# Altium footprint library Texas Instruments.PcbLib: 78 footprints (part 1 of 5)
Each footprint in its own frame and in the unit in brackets; x right, y up, seen from the top. Pads: shape width x height; smd on the part's side, far side on the other; paste and mask are expansions set on the pad; w line width, h text height; cw(c..) or ccw(c..) is an arc to the next point about the centre after c.
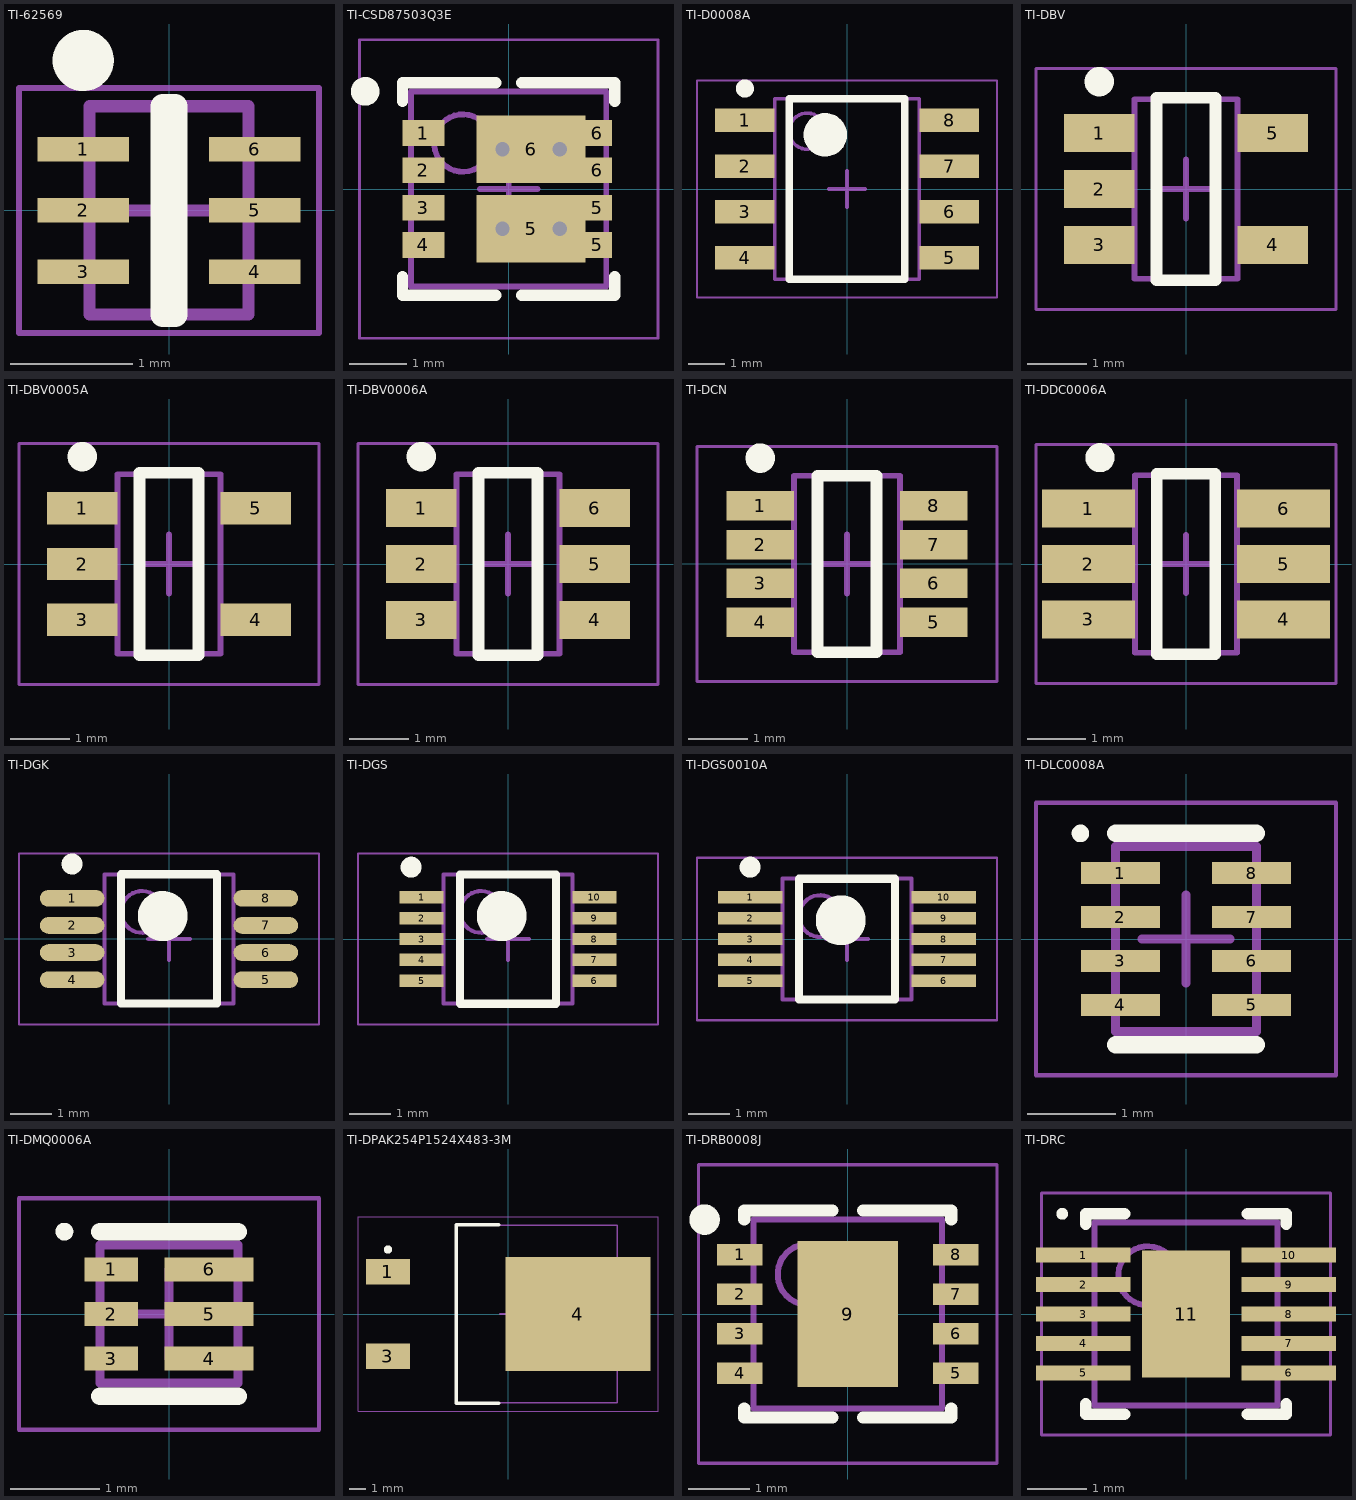
[diagram p0: the footprints below, top view; thin cyan lines are the x and y axes]

## TI-62569 [mm] "SOTFL, 6-Leads, Body 1.60x1.60mm, Pitch 0.50mm, IPC Medium Density"
height 0.6
pads (6):
  rect 0.75x0.2 smd: 1(-0.7,0.5) 2(-0.7,0) 3(-0.7,-0.5) 4(0.7,-0.5) 5(0.7,0) 6(0.7,0.5)
Top Overlay:
  circle w0.25: c-0.7,1.225 r0.125
  lines w0.2: -0.05,-0.85 -0.05,0.85 0.05,0.85 0.05,-0.85 -0.05,-0.85
Top Assembly:
  lines w0.1: -0.65,-0.85 0.65,-0.85 0.65,0.85 -0.65,0.85 -0.65,-0.85
Top Courtyard:
  lines w0.05: -1.225,-1 1.225,-1 1.225,1 -1.225,1 -1.225,-1
  lines w0.1: -0.5,0 0.5,0 ; 0,-0.5 0,0.5
3D body "TLV62569ADRLR.step": height 0.6, standoff 0, extent -0.8,-0.848 0.8,0.848

## TI-CSD87503Q3E [mm] "QFN, 8-Leads, Body 3.30x3.30mm, Pitch 0.65mm, Thermal Pad 1.00x1.60mm, IPC Low Density"
height 1
pads (10):
  rect 0.73x0.447 smd paste-0.05 mask-0.05: 1(-1.485,0.975) 2(-1.485,0.325) 3(-1.485,-0.325) 4(-1.485,-0.975)
  rect 1.9x1.18 smd paste-0.05 mask-0.05: 5(0.39,-0.691) 6(0.39,0.691)
  rect 0.51x0.447 smd paste-0.05 mask-0.05: 5(1.545,-0.975) 5(1.545,-0.325) 6(1.545,0.325) 6(1.545,0.975)
via 0.891,0.691 diameter 0.656 hole 0.25
via -0.109,0.691 diameter 0.656 hole 0.25
via 0.891,-0.691 diameter 0.656 hole 0.25
via -0.109,-0.691 diameter 0.656 hole 0.25
Top Overlay:
  circle w0.25: c-2.5,1.7 r0.125
  lines w0.2: -1.85,-1.525 -1.85,-1.85 -0.225,-1.85 ; -1.85,1.525 -1.85,1.85 -0.225,1.85 ; 0.225,-1.85 1.85,-1.85 1.85,-1.525 ; 0.225,1.85 1.85,1.85 1.85,1.525
Assembly Top:
  circle w0.1: c-0.8,0.8 r0.5
  lines w0.1: -1.7,-1.7 1.7,-1.7 1.7,1.7 -1.7,1.7 -1.7,-1.7
Courtyard Top:
  lines w0.05: -2.6,-2.6 2.6,-2.6 2.6,2.6 -2.6,2.6 -2.6,-2.6
  lines w0.1: -0.5,0 0.5,0 ; 0,-0.5 0,0.5
3D body "TI-Q3.step": height 1, standoff 0, extent -1.701,-1.7 1.701,1.7

## TI-D0008A [mm] "SOIC, 8-Leads, Body 4.91x3.90mm, Pitch 1.27mm, IPC Low Density"
height 1.75
pads (8):
  rect 1.65x0.65 smd: 1(-2.825,1.905) 2(-2.825,0.635) 3(-2.825,-0.635) 4(-2.825,-1.905) 5(2.825,-1.905) 6(2.825,-0.635) 7(2.825,0.635) 8(2.825,1.905)
Top Overlay:
  circle w0.25: c-2.825,2.78 r0.125
  circle w0.6: c-0.6,1.5 r0.3
  lines w0.2: -1.6,-2.5 -1.6,2.5 1.6,2.5 1.6,-2.5 -1.6,-2.5
Assembly Top:
  circle w0.1: c-1.1,1.6 r0.5
  lines w0.1: -2,-2.5 -2,2.5 2,2.5 2,-2.5 -2,-2.5
Courtyard Top:
  lines w0.05: -4.15,-3 -4.15,3 4.15,3 4.15,-3 -4.15,-3
  lines w0.1: -0.5,0 0.5,0 ; 0,-0.5 0,0.5
3D body "TI-D0008A.step": height 1.75, standoff 0, extent -2.997,-2.5 2.998,2.5

## TI-DBV [mm] "SOT23, 5-Leads, Body 2.90x2.80mm, Pitch 0.95mm, IPC Low Density"
height 1.45
pads (5):
  rect 1.2x0.65 smd: 1(-1.475,0.95) 2(-1.475,0) 3(-1.475,-0.95) 4(1.475,-0.95) 5(1.475,0.95)
Top Overlay:
  circle w0.25: c-1.475,1.825 r0.125
  lines w0.2: -0.5,-1.55 0.5,-1.55 0.5,1.55 -0.5,1.55 -0.5,-1.55
Assembly Top:
  lines w0.1: -0.875,-1.525 0.875,-1.525 0.875,1.525 -0.875,1.525 -0.875,-1.525
Courtyard Top:
  lines w0.05: -2.55,-2.05 2.55,-2.05 2.55,2.05 -2.55,2.05 -2.55,-2.05
  lines w0.1: -0.5,0 0.5,0 ; 0,-0.5 0,0.5
3D body "TI-DBV.step": height 1.45, standoff 0, extent -1.5,-1.525 1.5,1.525

## TI-DBV0005A [mm] "SOT23, 5-Leads, Body 2.90x2.80mm, Pitch 0.95mm, IPC Low Density"
height 1.45
pads (5):
  rect 1.2x0.55 smd mask+0.09: 1(-1.475,0.95) 2(-1.475,0) 3(-1.475,-0.95) 4(1.475,-0.95) 5(1.475,0.95)
Top Overlay:
  circle w0.25: c-1.475,1.825 r0.125
  lines w0.2: -0.5,-1.55 0.5,-1.55 0.5,1.55 -0.5,1.55 -0.5,-1.55
Assembly Top:
  lines w0.1: -0.875,-1.525 -0.875,1.525 0.875,1.525 0.875,-1.525 -0.875,-1.525
Courtyard Top:
  lines w0.05: -2.55,-2.05 2.55,-2.05 2.55,2.05 -2.55,2.05 -2.55,-2.05
  lines w0.1: -0.5,0 0.5,0 ; 0,-0.5 0,0.5
3D body "TI-DBV0005A.step": height 1.45, standoff 0, extent -1.5,-1.525 1.5,1.525

## TI-DBV0006A [mm] "SOT23, 6-Leads, Body 2.90x2.80mm, Pitch 0.95mm, IPC Low Density"
height 1.45
pads (6):
  rect 1.2x0.65 smd: 1(-1.475,0.95) 2(-1.475,0) 3(-1.475,-0.95) 4(1.475,-0.95) 5(1.475,0) 6(1.475,0.95)
Top Overlay:
  circle w0.25: c-1.475,1.825 r0.125
  lines w0.2: -0.5,-1.55 -0.5,1.55 0.5,1.55 0.5,-1.55 -0.5,-1.55
Top Assembly:
  lines w0.1: -0.875,-1.525 0.875,-1.525 0.875,1.525 -0.875,1.525 -0.875,-1.525
Top Courtyard:
  lines w0.05: -2.55,-2.05 2.55,-2.05 2.55,2.05 -2.55,2.05 -2.55,-2.05
  lines w0.1: -0.5,0 0.5,0 ; 0,-0.5 0,0.5
3D body "TI-DBV0006A.step": height 1.45, standoff 0, extent -1.5,-1.525 1.5,1.525

## TI-DCN [mm] "TSOP, 8-Leads, Body 2.90x1.60mm, Pitch 0.65mm, IPC Low Density"
height 1.45
pads (8):
  rect 1.15x0.5 smd: 1(-1.475,0.991) 2(-1.475,0.33) 3(-1.475,-0.33) 4(-1.475,-0.991) 5(1.475,-0.991) 6(1.475,-0.33) 7(1.475,0.33) 8(1.475,0.991)
Top Overlay:
  circle w0.25: c-1.475,1.8 r0.125
  lines w0.2: -0.5,-1.5 -0.5,1.5 0.5,1.5 0.5,-1.5 -0.5,-1.5
Assembly Top:
  lines w0.1: -0.9,-1.5 -0.9,1.5 0.9,1.5 0.9,-1.5 -0.9,-1.5
Courtyard Top:
  lines w0.05: -2.55,-2 -2.55,2 2.55,2 2.55,-2 -2.55,-2
  lines w0.1: -0.5,0 0.5,0 ; 0,-0.5 0,0.5
3D body "TI-DCN.step": height 1.45, standoff 0, extent -1.393,-1.5 1.393,1.5

## TI-DDC0006A [mm] "SOT23, 6-Leads, Body 2.90x2.80mm, Pitch 0.95mm, IPC Low Density"
height 1.1
pads (6):
  rect 1.6x0.65 smd: 1(-1.675,0.95) 2(-1.675,0) 3(-1.675,-0.95) 4(1.675,-0.95) 5(1.675,0) 6(1.675,0.95)
Top Overlay:
  circle w0.25: c-1.475,1.825 r0.125
  lines w0.2: -0.5,-1.55 0.5,-1.55 0.5,1.55 -0.5,1.55 -0.5,-1.55
Top Assembly:
  lines w0.1: -0.875,-1.525 -0.875,1.525 0.875,1.525 0.875,-1.525 -0.875,-1.525
Top Courtyard:
  lines w0.05: -2.575,-2.05 -2.575,2.05 2.575,2.05 2.575,-2.05 -2.575,-2.05
  lines w0.1: -0.5,0 0.5,0 ; 0,-0.5 0,0.5
3D body "TI-DDC0006A.step": height 1.1, standoff 0, extent -1.525,-1.525 1.525,1.525

## TI-DGK [mm] "TSOP, 8-Leads, Body 3.00x3.00mm, Pitch 0.65mm, IPC Low Density"
height 1.1
pads (8):
  oval 1.55x0.4 smd: 1(-2.325,0.975) 2(-2.325,0.325) 3(-2.325,-0.325) 4(-2.325,-0.975) 5(2.325,-0.975) 6(2.325,-0.325) 7(2.325,0.325) 8(2.325,0.975)
Top Overlay:
  circle w0.6: c-0.15,0.55 r0.3
  circle w0.25: c-2.325,1.8 r0.125
  lines w0.2: -1.15,-1.55 1.15,-1.55 1.15,1.55 -1.15,1.55 -1.15,-1.55
Assembly Top:
  circle w0.1: c-0.65,0.65 r0.5
  lines w0.1: -1.55,-1.55 1.55,-1.55 1.55,1.55 -1.55,1.55 -1.55,-1.55
Courtyard Top:
  lines w0.05: -3.6,-2.05 3.6,-2.05 3.6,2.05 -3.6,2.05 -3.6,-2.05
  lines w0.1: -0.5,0 0.5,0 ; 0,-0.5 0,0.5
3D body "TI-DGK.step": height 1.1, standoff 0, extent -2.45,-1.55 2.45,1.55

## TI-DGS [mm] "TSSOP, 10-Leads, Body 3.00x3.00mm, Pitch 0.50mm, IPC Low Density"
height 1.1
pads (10):
  rect 1.05x0.297 smd: 1(-2.075,1) 2(-2.075,0.5) 3(-2.075,0) 4(-2.075,-0.5) 5(-2.075,-1) 6(2.075,-1) 7(2.075,-0.5) 8(2.075,0) 9(2.075,0.5) 10(2.075,1)
Top Overlay:
  circle w0.6: c-0.15,0.55 r0.3
  circle w0.25: c-2.325,1.725 r0.125
  lines w0.2: -1.15,-1.55 1.15,-1.55 1.15,1.55 -1.15,1.55 -1.15,-1.55
Assembly Top:
  circle w0.1: c-0.65,0.65 r0.5
  lines w0.1: -1.55,-1.55 -1.55,1.55 1.55,1.55 1.55,-1.55 -1.55,-1.55
Courtyard Top:
  lines w0.05: -3.6,-2.05 -3.6,2.05 3.6,2.05 3.6,-2.05 -3.6,-2.05
  lines w0.1: -0.5,0 0.5,0 ; 0,-0.5 0,0.5
3D body "TI-DGS.step": height 1.1, standoff 0, extent -2.45,-1.55 2.45,1.55

## TI-DGS0010A [mm] "TSSOP, 10-Leads, Body 2.90x3.00mm, Pitch 0.50mm, IPC Low Density"
height 1.1
pads (10):
  rect 1.55x0.297 smd: 1(-2.325,1) 2(-2.325,0.5) 3(-2.325,0) 4(-2.325,-0.5) 5(-2.325,-1) 6(2.325,-1) 7(2.325,-0.5) 8(2.325,0) 9(2.325,0.5) 10(2.325,1)
Top Overlay:
  circle w0.6: c-0.15,0.45 r0.3
  circle w0.25: c-2.325,1.725 r0.125
  lines w0.2: -1.15,-1.45 1.15,-1.45 1.15,1.45 -1.15,1.45 -1.15,-1.45
Top Assembly:
  circle w0.1: c-0.65,0.55 r0.5
  lines w0.1: -1.55,-1.45 1.55,-1.45 1.55,1.45 -1.55,1.45 -1.55,-1.45
Top Courtyard:
  lines w0.05: -3.6,-1.95 3.6,-1.95 3.6,1.95 -3.6,1.95 -3.6,-1.95
  lines w0.1: -0.5,0 0.5,0 ; 0,-0.5 0,0.5
3D body "TI-DGS0010A.step": height 1.1, standoff 0, extent -2.45,-1.45 2.45,1.45

## TI-DLC0008A [mm] "SON, 8-Leads, Body 2.00x1.50mm, Pitch 0.50mm, IPC Low Density"
height 1
pads (8):
  rect 0.9x0.25 smd: 1(-0.745,0.75) 2(-0.745,0.25) 3(-0.745,-0.25) 4(-0.745,-0.75) 5(0.745,-0.75) 6(0.745,-0.25) 7(0.745,0.25) 8(0.745,0.75)
Top Overlay:
  circle w0.1: c-1.2,1.2 r0.05
  lines w0.2: -0.8,-1.2 0.8,-1.2 ; -0.8,1.2 0.8,1.2
Top Assembly:
  lines w0.1: -0.8,-1.05 -0.8,1.05 0.8,1.05 0.8,-1.05 -0.8,-1.05
Top Courtyard:
  lines w0.05: -1.705,-1.55 -1.705,1.55 1.705,1.55 1.705,-1.55 -1.705,-1.55
  lines w0.1: -0.5,0 0.5,0 ; 0,-0.5 0,0.5
3D body "TI-DLC0008A.step": height 1, standoff 0, extent -0.801,-1.05 0.801,1.05

## TI-DMQ0006A [mm] "SON, 6-Leads, Body 1.50x1.50mm, Pitch 0.50mm, IPC Low Density"
height 1
pads (6):
  rect 0.6x0.27 smd mask+0.051: 1(-0.65,0.5) 2(-0.65,0) 3(-0.65,-0.5)
  rect 1x0.27 smd mask+0.051: 4(0.45,-0.5) 5(0.45,0) 6(0.45,0.5)
Top Overlay:
  circle w0.1: c-1.175,0.925 r0.05
  lines w0.2: -0.775,-0.925 0.775,-0.925 ; -0.775,0.925 0.775,0.925
Top Assembly:
  lines w0.1: -0.775,-0.775 0.775,-0.775 0.775,0.775 -0.775,0.775 -0.775,-0.775
Top Courtyard:
  lines w0.05: -1.685,-1.3 1.685,-1.3 1.685,1.3 -1.685,1.3 -1.685,-1.3
  lines w0.1: -0.5,0 0.5,0 ; 0,-0.5 0,0.5
3D body "TI-DMQ0006A.step": height 1, standoff 0, extent -0.776,-0.775 0.776,0.775

## TI-DPAK254P1524X483-3M [mm] "D2-PAK, 3-Pads, Body 7.93x8.70mm (max), IPC Low Density"
height 4.83
pads (3):
  rect 2.65x1.55 smd: 1(-7.2,2.54) 3(-7.2,-2.54)
  rect 8.7x6.85 smd: 4(4.2,0)
Top Overlay:
  circle w0.25: c-7.2,3.865 r0.125
  lines w0.2: -0.55,-5.35 -3.1,-5.35 -3.1,5.35 -0.55,5.35
Top Assembly:
  lines w0.1: -3.1,-5.325 -3.1,5.325 6.55,5.325 6.55,-5.325 -3.1,-5.325
Top Courtyard:
  lines w0.05: -9,-5.825 -9,5.825 9,5.825 9,-5.825 -9,-5.825
  lines w0.1: -0.5,0 0.5,0 ; 0,-0.5 0,0.5
3D body "DPAK254P1524X483-3M.step": height 5.08, standoff 0, extent -6.57,-5.325 8.67,5.325

## TI-DRB0008J [mm] "QFN, 8-Leads, Body 3.00x3.00mm, Pitch 0.65mm, Thermal Pad 1.65x2.40mm, IPC Low Density"
height 1
pads (9):
  rect 0.75x0.35 smd: 1(-1.775,0.975) 2(-1.775,0.325) 3(-1.775,-0.325) 4(-1.775,-0.975) 5(1.775,-0.975) 6(1.775,-0.325) 7(1.775,0.325) 8(1.775,0.975)
  rect 1.65x2.4 smd: 9(0,0)
Top Overlay:
  circle w0.25: c-2.35,1.55 r0.125
  lines w0.2: -1.7,-1.55 -1.7,-1.7 -0.25,-1.7 ; -1.7,1.55 -1.7,1.7 -0.25,1.7 ; 0.25,-1.7 1.7,-1.7 1.7,-1.55 ; 0.25,1.7 1.7,1.7 1.7,1.55
Top Assembly:
  circle w0.1: c-0.65,0.65 r0.5
  lines w0.1: -1.55,-1.55 1.55,-1.55 1.55,1.55 -1.55,1.55 -1.55,-1.55
Top Courtyard:
  lines w0.05: -2.45,-2.45 2.45,-2.45 2.45,2.45 -2.45,2.45 -2.45,-2.45
  lines w0.1: -0.5,0 0.5,0 ; 0,-0.5 0,0.5
3D body "TI-DRB0008J.step": height 1, standoff 0, extent -1.551,-1.55 1.551,1.55

## TI-DRC [mm] "SON, 10-Leads, Body 3.00x3.00mm, Pitch 0.50mm, Thermal Pad 2.15x1.49mm, IPC Low Density"
height 1
pads (11):
  rect 1.6x0.25 smd: 1(-1.745,1) 2(-1.745,0.5) 3(-1.745,0) 4(-1.745,-0.5) 5(-1.745,-1) 6(1.745,-1) 7(1.745,-0.5) 8(1.745,0) 9(1.745,0.5) 10(1.745,1)
  rect 1.49x2.15 smd: 11(0,0)
Top Overlay:
  circle w0.1: c-2.1,1.7 r0.05
  lines w0.2: -1.7,-1.525 -1.7,-1.7 -1.045,-1.7 ; -1.7,1.525 -1.7,1.7 -1.045,1.7 ; 1.045,-1.7 1.7,-1.7 1.7,-1.525 ; 1.045,1.7 1.7,1.7 1.7,1.525
Assembly Top:
  circle w0.1: c-0.65,0.65 r0.5
  lines w0.1: -1.55,-1.55 1.55,-1.55 1.55,1.55 -1.55,1.55 -1.55,-1.55
Courtyard Top:
  lines w0.05: -2.455,-2.05 2.455,-2.05 2.455,2.05 -2.455,2.05 -2.455,-2.05
  lines w0.1: -0.5,0 0.5,0 ; 0,-0.5 0,0.5
3D body "TI-DRC.step": height 1, standoff 0, extent -1.551,-1.55 1.551,1.55